# EAGLE library part DG408DQ-T1-E3 (library Vishay_By_element14_Batch_1)
8-Ch/Dual 4-Ch High-Performance CMOS Analog Multiplexers
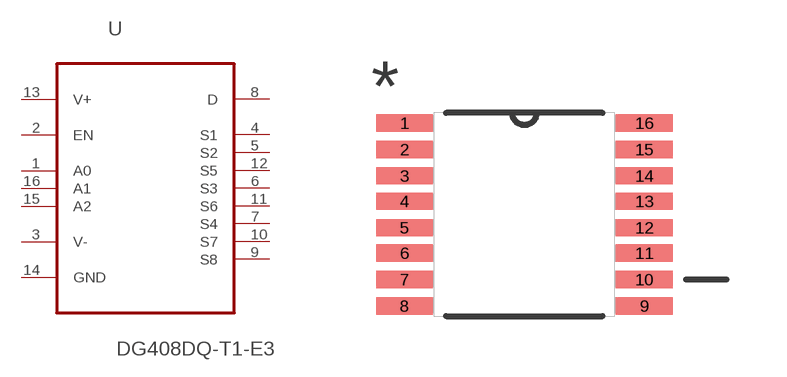
[diagram p30: symbol with the pads of SOP65P640X120-16N; footprint SOP65P640X120-16N]

Designator prefix U

## DG408DQ-T1-E3 (MPN: DG408DQ-T1-E3; OC_FARNELL: -; OC_NEWARK: 57J5224; PACKAGE: TSSOP-16; SUPPLIER: VISHAY SILICONIX)  [SOP65P640X120-16N]
1  A0  in
2  EN  in
3  V-  pwr
4  S1
5  S2
6  S3
7  S4
8  D  pas
9  S8
10  S7
11  S6
12  S5
13  V+  pwr
14  GND  pas
15  A2  in
16  A1  in

## Footprint SOP65P640X120-16N (pad centres in mm)
smd 1.422 x 0.432: 1 -2.997,2.286; 2 -2.997,1.626; 3 -2.997,0.965; 4 -2.997,0.33; 5 -2.997,-0.33; 6 -2.997,-0.965; 7 -2.997,-1.626; 8 -2.997,-2.286; 9 2.997,-2.286; 10 2.997,-1.626; 11 2.997,-0.965; 12 2.997,-0.33; 13 2.997,0.33; 14 2.997,0.965; 15 2.997,1.626; 16 2.997,2.286